# EAGLE library part WEBP88_S (library PoJD)
RJ45 konektor do DPS, 8/8 pinů. https://www.gme.cz/rj-konektor-webp-8-8-pcb
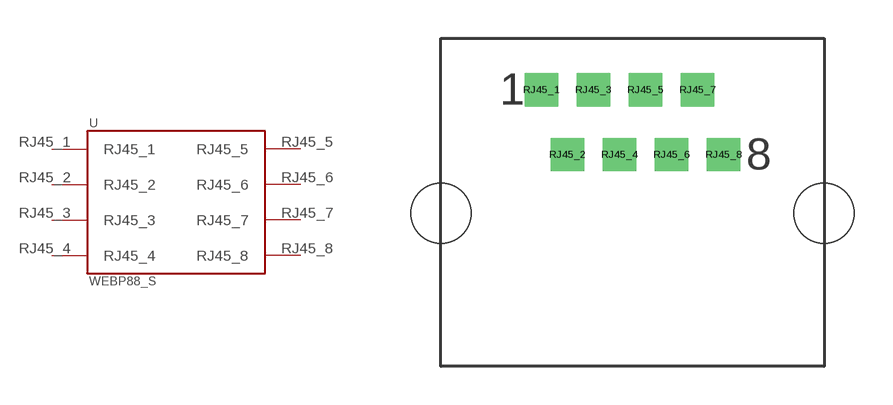
[diagram p2: symbol with the pads of WEBP88_RJ45_SINGLE; footprint WEBP88_RJ45_SINGLE]

Designator prefix -

## WEBP88_SSINGLE  [WEBP88_RJ45_SINGLE]
RJ45_1  RJ45_1
RJ45_2  RJ45_2
RJ45_3  RJ45_3
RJ45_4  RJ45_4
RJ45_5  RJ45_5
RJ45_6  RJ45_6
RJ45_7  RJ45_7
RJ45_8  RJ45_8

## Footprint WEBP88_RJ45_SINGLE (pad centres in mm)
RJ45 konektor do DPS, 8/8 pinů. https://www.gme.cz/rj-konektor-webp-8-8-pcb
drill 0.8 square: RJ45_1 -3.57,4.41; RJ45_2 -2.55,1.87; RJ45_3 -1.53,4.41; RJ45_4 -0.51,1.87; RJ45_5 0.51,4.41; RJ45_6 1.53,1.87; RJ45_7 2.55,4.41; RJ45_8 3.57,1.87
hole 2.36 at -7.5,-0.43
hole 2.36 at 7.5,-0.43